# EAGLE library part 615096243321 (library WE_Stecker)
WR-MJ Horizontal Shielded 2 x 6 Stacked Port with EMI Panel Finger 8P8C Modular Jack Tab Up & Down, 96 Pins=>Code : Con_I-O_MJ-H_Shielded_Up-Down_615096243321 <http://katalog.we-online.de/media/images/eican/Con_I-O_MJ-H_Shielded_Up-Down_615096243321_pf2.jpg> Details see: http://katalog.we-online.de/en/em/MJ_HORIZONTAL_SHIELDED_2X_6_STACKED_PORT_EMI_FINGER_8P8C_TAB_UP_DOWN Created 2014-07-10, Karrer Zheng 2014 (C) Würth Elektronik
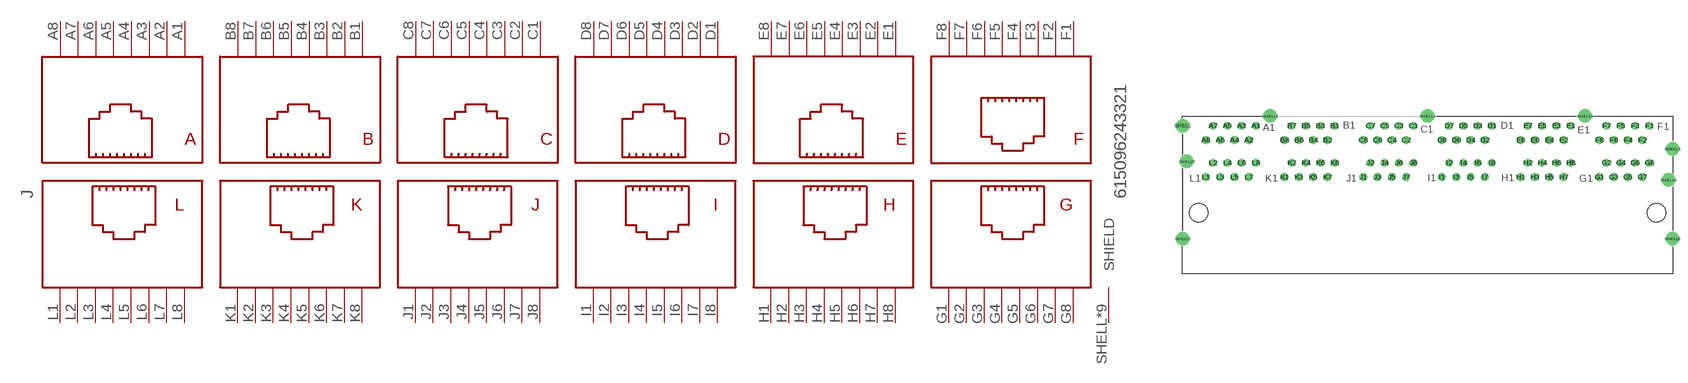
[diagram p135: symbol with the pads of 615096243321; footprint 615096243321]

Designator prefix J

## 615096243321  [615096243321]
A1  A8  pas
A2  A7  pas
A3  A6  pas
A4  A5  pas
A5  A4  pas
A6  A3  pas
A7  A2  pas
A8  A1  pas
B1  B8  pas
B2  B7  pas
B3  B6  pas
B4  B5  pas
B5  B4  pas
B6  B3  pas
B7  B2  pas
B8  B1  pas
C1  C8  pas
C2  C7  pas
C3  C6  pas
C4  C5  pas
C5  C4  pas
C6  C3  pas
C7  C2  pas
C8  C1  pas
D1  D8  pas
D2  D7  pas
D3  D6  pas
D4  D5  pas
D5  D4  pas
D6  D3  pas
D7  D2  pas
D8  D1  pas
E1  E8  pas
E2  E7  pas
E3  E6  pas
E4  E5  pas
E5  E4  pas
E6  E3  pas
E7  E2  pas
E8  E1  pas
F1  F8  pas
F2  F7  pas
F3  F6  pas
F4  F5  pas
F5  F4  pas
F6  F3  pas
F7  F2  pas
F8  F1  pas
G1  G8  pas
G2  G7  pas
G3  G6  pas
G4  G5  pas
G5  G4  pas
G6  G3  pas
G7  G2  pas
G8  G1  pas
H1  H8  pas
H2  H7  pas
H3  H6  pas
H4  H5  pas
H5  H4  pas
H6  H3  pas
H7  H2  pas
H8  H1  pas
I1  I8  pas
I2  I7  pas
I3  I6  pas
I4  I5  pas
I5  I4  pas
I6  I3  pas
I7  I2  pas
I8  I1  pas
J1  J8  pas
J2  J7  pas
J3  J6  pas
J4  J5  pas
J5  J4  pas
J6  J3  pas
J7  J2  pas
J8  J1  pas
K1  K8  pas
K2  K7  pas
K3  K6  pas
K4  K5  pas
K5  K4  pas
K6  K3  pas
K7  K2  pas
K8  K1  pas
L1  L8  pas
L2  L7  pas
L3  L6  pas
L4  L5  pas
L5  L4  pas
L6  L3  pas
L7  L2  pas
L8  L1  pas
SHELL  SHIELD  pas
SHELL1  SHIELD  pas
SHELL2  SHIELD  pas
SHELL3  SHIELD  pas
SHELL4  SHIELD  pas
SHELL5  SHIELD  pas
SHELL6  SHIELD  pas
SHELL7  SHIELD  pas
SHELL8  SHIELD  pas

## Footprint 615096243321 (pad centres in mm)
WR-MJ Horizontal Shielded 2 x 6 Stacked Port with EMI Panel Finger 8P8C Modular Jack Tab Up & Down, 96 Pins
drill 0.89: A1 -30.48,15.47; A2 -31.75,12.93; A3 -33.02,15.47; A4 -34.29,12.93; A5 -35.56,15.47; A6 -36.83,12.93; A7 -38.1,15.47; A8 -39.37,12.93; B1 -16.51,15.47; B2 -17.78,12.93; B3 -19.05,15.47; B4 -20.32,12.93; B5 -21.59,15.47; B6 -22.86,12.93; B7 -24.13,15.47; B8 -25.4,12.93; C1 -2.54,15.47; C2 -3.81,12.93; C3 -5.08,15.47; C4 -6.35,12.93; C5 -7.62,15.47; C6 -8.89,12.93; C7 -10.16,15.47; C8 -11.43,12.93; D1 11.43,15.47; D2 10.16,12.93; D3 8.89,15.47; D4 7.62,12.93; D5 6.35,15.47; D6 5.08,12.93; D7 3.81,15.47; D8 2.54,12.93; E1 25.4,15.47; E2 24.13,12.93; E3 22.86,15.47; E4 21.59,12.93; E5 20.32,15.47; E6 19.05,12.93; E7 17.78,15.47; E8 16.51,12.93; F1 39.37,15.47; F2 38.1,12.93; F3 36.83,15.47; F4 35.56,12.93; F5 34.29,15.47; F6 33.02,12.93; F7 31.75,15.47; F8 30.48,12.93; G1 30.48,6.35; G2 31.75,8.89; G3 33.02,6.35; G4 34.29,8.89; G5 35.56,6.35; G6 36.83,8.89; G7 38.1,6.35; G8 39.37,8.89; H1 16.51,6.35; H2 17.78,8.89; H3 19.05,6.35; H4 20.32,8.89; H5 21.59,6.35; H6 22.86,8.89; H7 24.13,6.35; H8 25.4,8.89; I1 2.54,6.35; I2 3.81,8.89; I3 5.08,6.35; I4 6.35,8.89; I5 7.62,6.35; I6 8.89,8.89; I7 10.16,6.35; I8 11.43,8.89; J1 -11.43,6.35; J2 -10.16,8.89; J3 -8.89,6.35; J4 -7.62,8.89; J5 -6.35,6.35; J6 -5.08,8.89; J7 -3.81,6.35; J8 -2.54,8.89; K1 -25.4,6.35; K2 -24.13,8.89; K3 -22.86,6.35; K4 -21.59,8.89; K5 -20.32,6.35; K6 -19.05,8.89; K7 -17.78,6.35; K8 -16.51,8.89; L1 -39.37,6.35; L2 -38.1,8.89; L3 -36.83,6.35; L4 -35.56,8.89; L5 -34.29,6.35; L6 -33.02,8.89; L7 -31.75,6.35; L8 -30.48,8.89
drill 1.6: SHELL -43.435,15.47; SHELL1 -27.94,17.2; SHELL2 0,17.2; SHELL3 27.94,17.2; SHELL4 43.435,11.4; SHELL5 -42.76,9.14; SHELL6 42.76,5.84; SHELL7 -43.435,-4.57; SHELL8 43.435,-4.57
hole 3.25 at -40.64,0
hole 3.25 at 40.64,0